# Altium footprint library linear.PCBLIB: 119 footprints (part 3 of 8)
Each footprint in its own frame and in the unit in brackets; x right, y up, seen from the top. Pads: shape width x height; smd on the part's side, far side on the other; paste and mask are expansions set on the pad; w line width, h text height; cw(c..) or ccw(c..) is an arc to the next point about the centre after c.
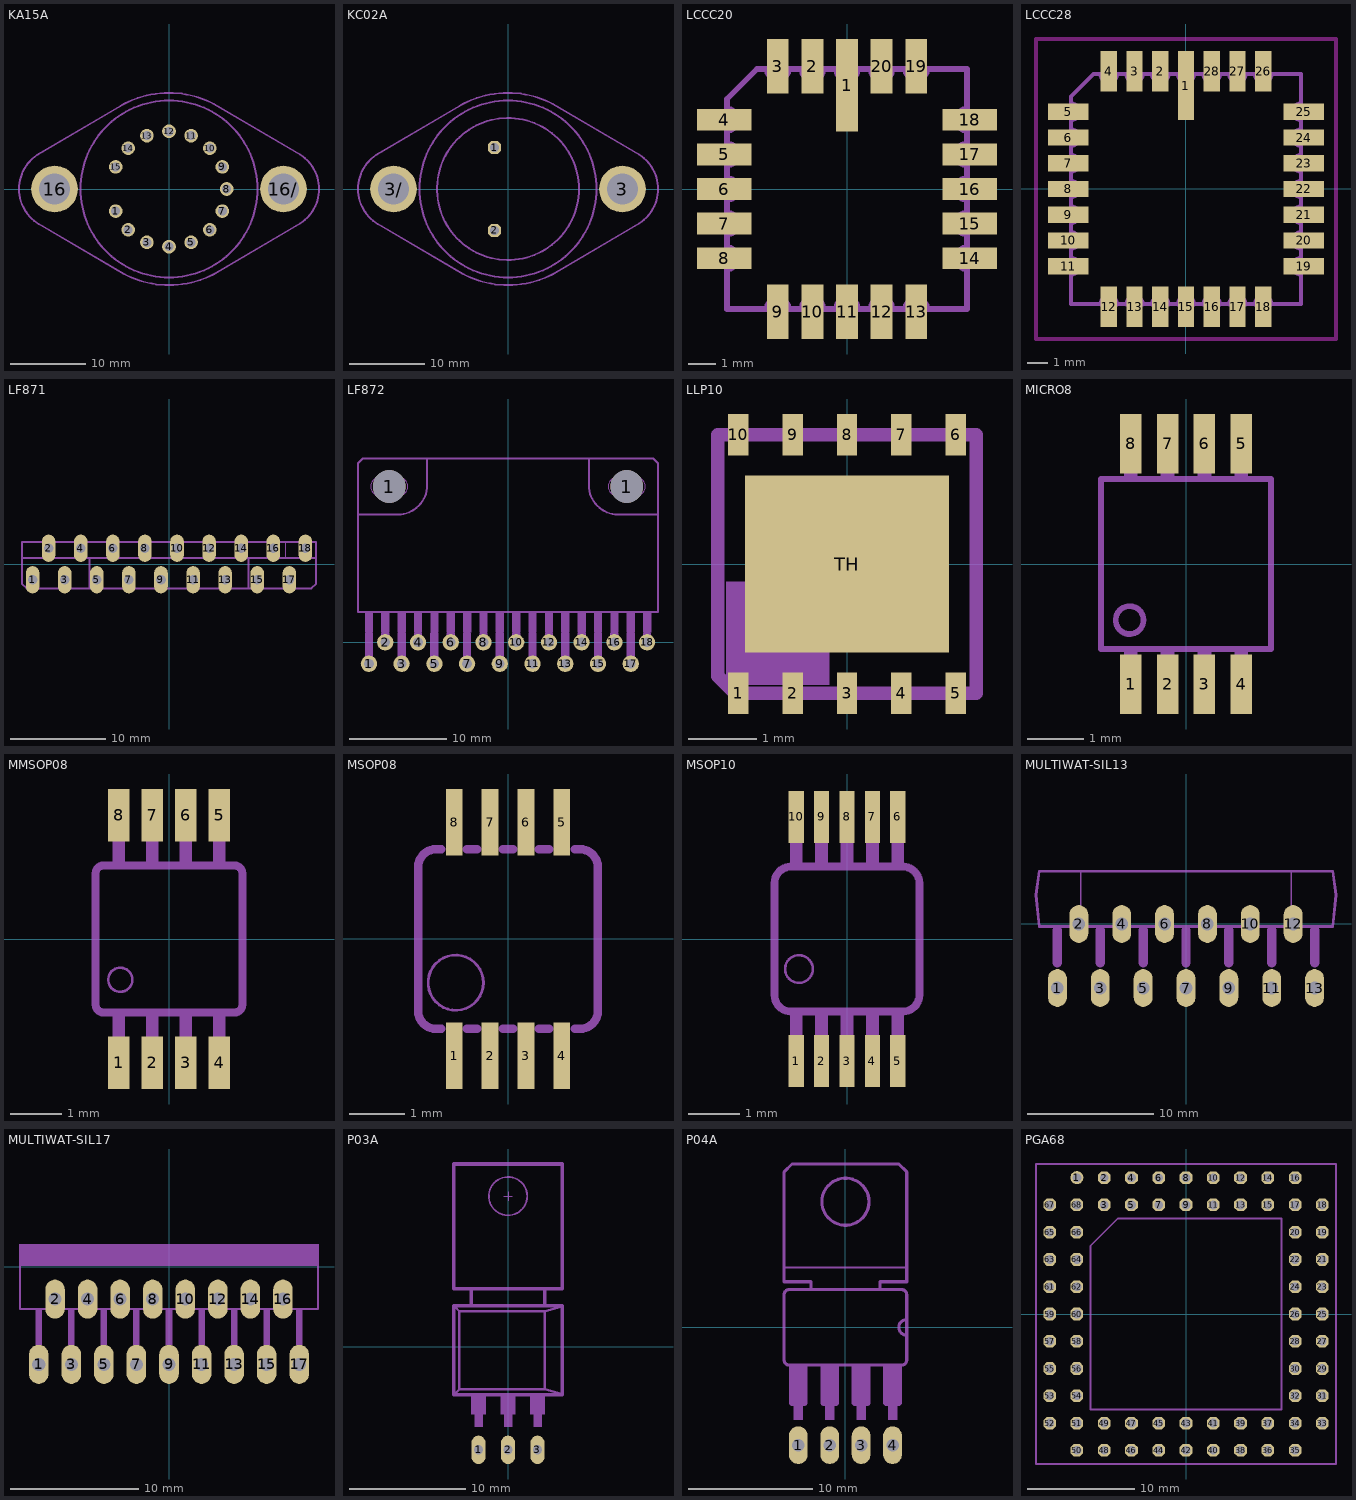
[diagram p2: the footprints below, top view; thin cyan lines are the x and y axes]

## KA15A [mil]
pads (17):
  round 70.86 hole 47.24: 1(-277.17,-114.8) 2(-212.13,-212.13) 3(-114.8,-277.17) 4(0,-300) 5(114.8,-277.17) 6(212.13,-212.13) 7(277.17,-114.8) 8(300,0) 9(277.17,114.8) 10(212.13,212.13) 11(114.8,277.17) 12(0,300) 13(-114.8,277.17) 14(-212.13,212.13) 15(-277.17,114.8)
  round 243 hole 162: 16(-595,0) 16/(595,0)
Mechanical 2:
  circle w10: c0,0 r460
  lines w10: -680,180 -250,433 ; -679,-181 -234,-442 ; -675.41,-183.35 cw(c-567,0) -780,0 cw(c-567,0) -672.94,184.78 ; -250.86,432.52 cw(c-0.01,0) 0,500 cw(c0.01,-0.01) 235.3,441.18 ; -235.3,-441.18 ccw(c-0.01,0.01) 0,-500 ccw(c0.01,0) 250.86,-432.52 ; 235,441 684,178 ; 251,-433 684,-178 ; 682.54,-178.94 ccw(c567,0) 780,0 ccw(c567,0) 682.54,178.94
Mechanical 18:
  circle w6: c595,0 r85
  circle w6: c-595,0 r85

## KC02A [mil]
pads (4):
  oct 68.26x68.26 hole 47: 1(-70,215) 2(-70,-215)
  round 243 hole 162: 3(595,0) 3/(-595,0)
Mechanical 2:
  circle w10: c0,0 r369
  circle w10: c0,0 r460
  lines w10: -680,180 -250,433 ; -679,-181 -234,-442 ; -675.41,-183.35 cw(c-567,0) -780,0 cw(c-567,0) -672.94,184.78 ; -250.86,432.52 cw(c-0.01,0) 0,500 cw(c0.01,-0.01) 235.3,441.18 ; -235.3,-441.18 ccw(c-0.01,0.01) 0,-500 ccw(c0.01,0) 250.86,-432.52 ; 235,441 684,178 ; 251,-433 684,-178 ; 682.54,-178.94 ccw(c567,0) 780,0 ccw(c567,0) 682.54,178.94
Mechanical 18:
  circle w10: c595,0 r85
  circle w10: c-595,0 r85

## LCCC20 [mil]
pads (20):
  rect 31.5x133.86 smd: 1(0,149.61)
  rect 31.5x78.74 smd: 2(-50,177.17) 3(-100,177.17) 9(-100,-177.17) 10(-50,-177.17) 11(0,-177.17) 12(50,-177.17) 13(100,-177.17) 19(100,177.17) 20(50,177.17)
  rect 78.74x31.5 smd: 4(-177.17,100) 5(-177.17,50) 6(-177.17,0) 7(-177.17,-50) 8(-177.17,-100) 14(177.17,-100) 15(177.17,-50) 16(177.17,0) 17(177.17,50) 18(177.17,100)
Mechanical 2:
  lines w8: -173.23,129.92 -129.92,173.23
Mechanical 18:
  lines w8: -173.23,-173.62 -173.23,-173.23 ; -173.23,-115.75 -173.23,-173.23 ; -173.23,-84.25 -173.23,-65.75 ; -173.23,-34.25 -173.23,-15.75 ; -173.23,15.75 -173.23,34.25 ; -173.23,65.75 -173.23,84.25 ; -173.23,115.75 -173.23,129.92 ; -173.17,-115.75 ccw(c-173.17,-100) -173.17,-84.25 ; -173.17,-65.75 ccw(c-173.17,-50) -173.17,-34.25 ; -173.17,-15.75 ccw(c-173.17,0) -173.17,15.75 ; -173.17,34.25 ccw(c-173.17,50) -173.17,65.75 ; -173.17,84.25 ccw(c-173.17,100) -173.17,115.75 ; -129.92,173.23 -115.75,173.23 ; -115.75,-173.23 -173.23,-173.23 ; -115.75,-173.17 cw(c-100,-173.17) -84.25,-173.17 ; -115.75,173.17 ccw(c-100,173.17) -84.25,173.17 ; -84.25,-173.23 -65.75,-173.23 ; -84.25,173.23 -65.75,173.23 ; -65.75,-173.17 cw(c-50,-173.17) -34.25,-173.17 ; -65.75,173.17 ccw(c-50,173.17) -34.25,173.17 ; -34.25,-173.23 -15.75,-173.23 ; -34.25,173.23 -15.75,173.23 ; -15.75,-173.17 cw(c0,-173.17) 15.75,-173.17 ; -15.75,173.17 ccw(c0,173.17) 15.75,173.17 ; 15.75,-173.23 34.25,-173.23 ; 15.75,173.23 34.25,173.23 ; 34.25,-173.17 cw(c50,-173.17) 65.75,-173.17 ; 34.25,173.17 ccw(c50,173.17) 65.75,173.17 ; 65.75,-173.23 84.25,-173.23 ; 65.75,173.23 84.25,173.23 ; 84.25,-173.17 cw(c100,-173.17) 115.75,-173.17 ; 84.25,173.17 ccw(c100,173.17) 115.75,173.17 ; 115.75,-173.23 173.23,-173.23 173.23,-115.75 ; 115.75,173.23 173.23,173.23 173.23,115.75 ; 173.17,-115.75 cw(c173.17,-100) 173.17,-84.25 ; 173.17,-65.75 cw(c173.17,-50) 173.17,-34.25 ; 173.17,-15.75 cw(c173.17,0) 173.17,15.75 ; 173.17,34.25 cw(c173.17,50) 173.17,65.75 ; 173.17,84.25 cw(c173.17,100) 173.17,115.75 ; 173.23,-84.25 173.23,-65.75 ; 173.23,-34.25 173.23,-15.75 ; 173.23,15.75 173.23,34.25 ; 173.23,65.75 173.23,84.25

## LCCC28 [mil]
pads (28):
  rect 31.5x133.86 smd: 1(0,200.79)
  rect 31.5x78.74 smd: 2(-50,228.35) 3(-100,228.35) 4(-150,228.35) 12(-150,-228.35) 13(-100,-228.35) 14(-50,-228.35) 15(0,-228.35) 16(50,-228.35) 17(100,-228.35) 18(150,-228.35) 26(150,228.35) 27(100,228.35) 28(50,228.35)
  rect 78.74x31.5 smd: 5(-228.35,150) 6(-228.35,100) 7(-228.35,50) 8(-228.35,0) 9(-228.35,-50) 10(-228.35,-100) 11(-228.35,-150) 19(228.35,-150) 20(228.35,-100) 21(228.35,-50) 22(228.35,0) 23(228.35,50) 24(228.35,100) 25(228.35,150)
Keep-Out Layer:
  lines w7.87: -291.46,-291.46 291.46,-291.46 291.46,291.46 -291.46,291.46 -291.46,-291.46
Mechanical 2:
  lines w8: -223.23,179.92 -179.92,223.23
Mechanical 18:
  lines w8: -223.23,179.92 -223.23,165.75 cw(c-223.23,150) -223.23,134.25 -223.23,115.75 cw(c-223.23,100) -223.23,84.25 -223.23,65.75 cw(c-223.23,50) -223.23,34.25 -223.23,15.75 cw(c-223.23,0) -223.23,-15.75 -223.23,-34.25 cw(c-223.23,-50) -223.23,-65.75 -223.23,-84.25 cw(c-223.23,-100) -223.23,-115.75 -223.23,-134.25 cw(c-223.23,-150) -223.23,-165.75 -223.23,-223.23 -165.75,-223.23 ; -179.92,223.23 -165.75,223.23 ccw(c-150,223.23) -134.25,223.23 -115.75,223.23 ccw(c-100,223.23) -84.25,223.23 -65.75,223.23 ccw(c-50,223.23) -34.25,223.23 -15.75,223.23 ccw(c0,223.23) 15.75,223.23 34.25,223.23 ccw(c50,223.23) 65.75,223.23 84.25,223.23 ccw(c100,223.23) 115.75,223.23 134.25,223.23 ccw(c150,223.23) 165.75,223.23 223.23,223.23 223.23,165.75 ccw(c223.23,150) 223.23,134.25 223.23,115.75 ccw(c223.23,100) 223.23,84.25 223.23,65.75 ccw(c223.23,50) 223.23,34.25 223.23,15.75 ccw(c223.23,0) 223.23,-15.75 223.23,-34.25 ccw(c223.23,-50) 223.23,-65.75 223.23,-84.25 ccw(c223.23,-100) 223.23,-115.75 223.23,-134.25 ccw(c223.23,-150) 223.23,-165.75 223.23,-223.23 165.75,-223.23 ; -165.75,-224.22 cw(c-150,-224.22) -134.25,-224.22 ; -134.25,-223.23 -115.75,-223.23 ; -115.75,-224.22 cw(c-100,-224.22) -84.25,-224.22 ; -84.25,-223.23 -65.75,-223.23 ; -65.75,-224.22 cw(c-50,-224.22) -34.25,-224.22 ; -34.25,-223.23 -15.75,-223.23 ; -15.75,-224.22 cw(c0,-224.22) 15.75,-224.22 ; 15.75,-223.23 34.25,-223.23 ; 34.25,-224.22 cw(c50,-224.22) 65.75,-224.22 ; 65.75,-223.23 84.25,-223.23 ; 84.25,-224.22 cw(c100,-224.22) 115.75,-224.22 ; 115.75,-223.23 134.25,-223.23 ; 134.25,-224.22 cw(c150,-224.22) 165.75,-224.22

## LF871 [mil]
pads (18):
  oval 56x112 hole 39.37: 1(-562.2,-64.96) 2(-496.06,64.96) 3(-429.92,-64.96) 4(-363.78,64.96) 5(-297.64,-64.96) 6(-231.5,64.96) 7(-165.35,-64.96) 8(-99.21,64.96) 9(-33.07,-64.96) 10(33.07,64.96) 11(99.21,-64.96) 12(165.35,64.96) 13(231.5,-64.96) 14(297.64,64.96) 15(363.78,-64.96) 16(429.92,64.96) 17(496.06,-64.96) 18(562.2,64.96)
Mechanical 2:
  lines w8: -606.3,-80.71 -606.3,90.55 -533.46,90.55 ; -517.72,-100.39 -480.32,-100.39 ; -448.82,90.55 -411.42,90.55 ; -381.89,-100.39 -344.49,-100.39 ; -318.9,90.55 -281.5,90.55 ; -250,-100.39 -212.6,-100.39 ; -185.04,90.55 -147.64,90.55 ; -116.14,-100.39 -78.74,-100.39 ; -53.15,90.55 -15.75,90.55 ; 15.75,-100.39 53.15,-100.39 ; 82.68,90.55 120.08,90.55 ; 145.67,-100.39 183.07,-100.39 ; 210.63,90.55 248.03,90.55 ; 277.56,-100.39 314.96,-100.39 ; 346.46,90.55 383.86,90.55 ; 411.42,-100.39 448.82,-100.39 ; 478.35,90.55 515.75,90.55 ; 539.37,-100.39 586.61,-100.39 606.3,-80.71 606.3,90.55 600.39,90.55
Mechanical 18:
  lines w4: -480.32,29.53 -480.32,86.61 ; 480.32,29.53 480.32,86.61
  lines w8: -604.33,25.59 -326.77,25.59 ; -326.77,-96.46 -326.77,25.59 ; 326.77,-98.43 326.77,25.59 ; 604.33,25.59 326.77,25.59 ; -326.77,25.59 326.77,25.59 ; -606.3,-80.71 -606.3,90.55 606.3,90.55 606.3,-80.71 586.61,-100.39 -586.61,-100.39 -606.3,-80.71

## LF872 [mil]
pads (20):
  round 66 hole 39.37: 1(-562.2,-86.61) 2(-496.06,0) 3(-429.92,-86.61) 4(-363.78,0) 5(-297.64,-86.61) 6(-231.5,0) 7(-165.35,-86.61) 8(-99.21,0) 9(-33.07,-86.61) 10(33.07,0) 11(99.21,-86.61) 12(165.35,0) 13(231.5,-86.61) 14(297.64,0) 15(363.78,-86.61) 16(429.92,0) 17(496.06,-86.61) 18(562.2,0)
  round 131.89 hole 131.89: 1(-480.32,629.92) 1(480.32,629.92)
Mechanical 1:
  lines w0: -555.12,629.92 cw(c-515.75,629.92) -515.75,669.29 -444.88,669.29 cw(c-444.88,629.92) -405.51,629.92 cw(c-444.88,629.92) -444.88,590.55 -515.75,590.55 cw(c-515.75,629.92) -555.12,629.92 ; 405.51,629.92 cw(c444.88,629.92) 444.88,669.29 515.75,669.29 cw(c515.75,629.92) 555.12,629.92 cw(c515.75,629.92) 515.75,590.55 444.88,590.55 cw(c444.88,629.92) 405.51,629.92
Mechanical 2:
  rectangle: -578.74,39.37 -545.28,120.08
  rectangle: -512.6,39.37 -479.13,120.08
  rectangle: -446.46,39.37 -412.99,120.08
  rectangle: -380.32,39.37 -346.85,120.08
  rectangle: -314.17,39.37 -280.71,120.08
  rectangle: -248.03,39.37 -214.57,120.08
  rectangle: -181.89,39.37 -148.43,120.08
  rectangle: -115.75,39.37 -82.28,120.08
  rectangle: -49.61,39.37 -16.14,120.08
  rectangle: 16.54,39.37 50,120.08
  rectangle: 82.68,39.37 116.14,120.08
  rectangle: 148.82,39.37 182.28,120.08
  rectangle: 214.96,39.37 248.43,120.08
  rectangle: 281.1,39.37 314.57,120.08
  rectangle: 347.24,39.37 380.71,120.08
  rectangle: 413.39,39.37 446.85,120.08
  rectangle: 479.53,39.37 512.99,120.08
  rectangle: 545.67,39.37 579.13,120.08
  lines w8: -604.33,516.73 -444.88,516.73 ccw(c-444.88,634.84) -326.77,634.84 -326.77,741.14 ; 326.77,739.17 326.77,634.84 ccw(c444.88,634.84) 444.88,516.73 604.33,516.73 ; -606.3,123.03 -606.3,723.43 -586.61,743.11 586.61,743.11 606.3,723.43 606.3,123.03 -606.3,123.03
Mechanical 18:
  lines w33.46: -562.2,-85.43 -562.2,33.07 ; -496.06,0 -496.06,33.07 ; -429.92,-85.43 -429.92,33.07 ; -363.78,0 -363.78,33.07 ; -297.64,-85.43 -297.64,33.07 ; -231.5,0 -231.5,33.07 ; -165.35,-85.43 -165.35,33.07 ; -99.21,0 -99.21,33.07 ; -33.07,-85.43 -33.07,33.07 ; 33.07,0 33.07,33.07 ; 99.21,-85.43 99.21,33.07 ; 165.35,0 165.35,33.07 ; 231.5,-85.43 231.5,33.07 ; 297.64,0 297.64,33.07 ; 363.78,-85.43 363.78,33.07 ; 429.92,0 429.92,33.07 ; 496.06,-85.43 496.06,33.07 ; 562.2,0 562.2,33.07

## LLP10 [mil]
pads (11):
  rect 11.81x24.02 smd: 1(-62.99,-74.8) 2(-31.5,-74.8) 3(0,-74.8) 4(31.5,-74.8) 5(62.99,-74.8) 6(62.99,74.8) 7(31.5,74.8) 8(0,74.8) 9(-31.5,74.8) 10(-62.99,74.8)
  rect 118.11x102.36 smd: TH(0,0)
Mechanical 2:
  lines w8: -74.8,-64.8 -64.8,-74.8 74.8,-74.8 74.8,74.8 -74.8,74.8 -74.8,-64.8
Mechanical 18:
  rectangle: -70,-70 -10,-10

## MICRO8 [mm]
pads (8):
  rect 0.38x1.05 smd: 1(-0.975,-2.125) 2(-0.325,-2.125) 3(0.325,-2.125) 4(0.975,-2.125) 5(0.975,2.125) 6(0.325,2.125) 7(-0.325,2.125) 8(-0.975,2.125)
Mechanical 2:
  circle w0.102: c-0.996,-0.991 r0.246
  lines w0.102: -1.5,-1.5 1.5,-1.5 1.5,1.5 -1.5,1.5 -1.5,-1.5
Mechanical 18:
  rectangle: -1.098,1.55 -0.854,2.525
  rectangle: -0.448,1.55 -0.204,2.525
  rectangle: 0.202,1.55 0.446,2.525
  rectangle: 0.852,1.55 1.096,2.525
  rectangle: -1.098,-2.525 -0.854,-1.55
  rectangle: -0.448,-2.525 -0.204,-1.55
  rectangle: 0.202,-2.525 0.446,-1.55
  rectangle: 0.852,-2.525 1.096,-1.55

## MMSOP08 [mil]
pads (8):
  rect 16.14x40.16 smd: 1(-38.39,-94.49) 2(-12.8,-94.49) 3(12.8,-94.49) 4(38.39,-94.49) 5(38.39,94.49) 6(12.8,94.49) 7(-12.8,94.49) 8(-38.39,94.49)
Mechanical 2:
  circle w2: c-37.23,-31.13 r9.21
  rectangle: -43.21,-72.83 -33.61,-56.13
  rectangle: -17.62,-72.83 -8.02,-56.13
  rectangle: 7.97,-72.83 17.57,-56.13
  rectangle: 33.56,-72.83 43.16,-56.13
  region: 43.21,72.83 33.61,72.83 33.61,56.13 43.21,56.13
  region: 17.62,72.83 8.02,72.83 8.02,56.13 17.62,56.13
  region: -7.97,72.83 -17.57,72.83 -17.57,56.13 -7.97,56.13
  region: -33.56,72.83 -43.16,72.83 -43.16,56.13 -33.56,56.13
  lines w6: -56.06,-50.16 ccw(c-50.16,-50.2) -50.2,-56.1 50.2,-56.1 ccw(c50.2,-50.24) 56.06,-50.24 56.06,50.16 ccw(c50.16,50.2) 50.2,56.1 -50.2,56.1 ccw(c-50.2,50.24) -56.06,50.24 -56.06,-50.16
Mechanical 18:
  rectangle: -43.21,-96.46 -33.61,-72.83
  rectangle: -17.62,-96.46 -8.02,-72.83
  rectangle: 7.97,-96.46 17.57,-72.83
  rectangle: 33.56,-96.46 43.16,-72.83
  region: 43.21,96.46 33.61,96.46 33.61,72.83 43.21,72.83
  region: 17.62,96.46 8.02,96.46 8.02,72.83 17.62,72.83
  region: -7.97,96.46 -17.57,96.46 -17.57,72.83 -7.97,72.83
  region: -33.56,96.46 -43.16,96.46 -43.16,72.83 -33.56,72.83

## MSOP08 [mil]
pads (8):
  rect 11.81x47.24 smd: 1(-38.43,-83.19) 2(-12.83,-83.19) 3(12.76,-83.19) 4(38.35,-83.19) 5(38.35,83.15) 6(12.76,83.15) 7(-12.83,83.15) 8(-38.43,83.15)
Mechanical 2:
  circle w2: c-37.23,-31.13 r19.69
  lines w6: -51.22,-64.02 cw(c-51.22,-51.22) -64.02,-51.22 -64.02,51.14 cw(c-51.22,51.14) -51.22,63.94 ; 51.14,-64.02 ccw(c51.14,-51.22) 63.94,-51.22 63.94,51.14 ccw(c51.14,51.14) 51.14,63.94
Mechanical 18:
  rectangle: -43.21,63.95 -33.61,92.74
  rectangle: -17.62,63.95 -8.02,92.74
  rectangle: 7.97,63.95 17.57,92.74
  rectangle: 33.56,63.95 43.16,92.74
  rectangle: -43.21,-92.79 -33.61,-64
  rectangle: -17.62,-92.79 -8.02,-64
  rectangle: 7.97,-92.79 17.57,-64
  rectangle: 33.56,-92.79 43.16,-64
  lines w6: -52.8,-64.02 -47.4,-64.02 ; -51.22,63.94 -47.4,63.94 ; -29.41,-64.02 -21.81,-64.02 ; -29.41,63.94 -21.81,63.94 ; -3.82,-64.02 3.78,-64.02 ; -3.82,63.94 3.78,63.94 ; 21.77,-64.02 29.37,-64.02 ; 21.77,63.94 29.37,63.94 ; 47.36,-64.02 51.14,-64.02 ; 47.36,63.94 51.14,63.94

## MSOP10 [mm]
pads (10):
  rect 0.3x1.02 smd paste-0.51 mask-0.51: 1(-1,-2.4) 2(-0.5,-2.4) 3(0,-2.4) 4(0.5,-2.4) 5(1,-2.4) 6(1,2.4) 7(0.5,2.4) 8(0,2.4) 9(-0.5,2.4) 10(-1,2.4)
Top Paste:
  rectangle: -1.15,-2.85 -0.85,-1.9
  rectangle: -0.65,-2.85 -0.35,-1.9
  rectangle: -0.15,-2.85 0.15,-1.9
  rectangle: 0.35,-2.85 0.65,-1.9
  rectangle: 0.85,-2.85 1.15,-1.9
  region: 1.15,2.85 0.85,2.85 0.85,1.9 1.15,1.9
  region: 0.65,2.85 0.35,2.85 0.35,1.9 0.65,1.9
  region: 0.15,2.85 -0.15,2.85 -0.15,1.9 0.15,1.9
  region: -0.35,2.85 -0.65,2.85 -0.65,1.9 -0.35,1.9
  region: -0.85,2.85 -1.15,2.85 -1.15,1.9 -0.85,1.9
Top Solder:
  rectangle: -1.2,-2.95 -0.8,-1.85
  rectangle: -0.7,-2.95 -0.3,-1.85
  rectangle: -0.2,-2.95 0.2,-1.85
  rectangle: 0.3,-2.95 0.7,-1.85
  rectangle: 0.8,-2.95 1.2,-1.85
  region: 1.2,2.95 0.8,2.95 0.8,1.85 1.2,1.85
  region: 0.7,2.95 0.3,2.95 0.3,1.85 0.7,1.85
  region: 0.2,2.95 -0.2,2.95 -0.2,1.85 0.2,1.85
  region: -0.3,2.95 -0.7,2.95 -0.7,1.85 -0.3,1.85
  region: -0.8,2.95 -1.2,2.95 -1.2,1.85 -0.8,1.85
Mechanical 2:
  circle w0.051: c-0.946,-0.591 r0.273
  rectangle: -1.125,-1.825 -0.875,-1.475
  rectangle: -0.625,-1.825 -0.375,-1.475
  rectangle: -0.125,-1.825 0.125,-1.475
  rectangle: 0.375,-1.825 0.625,-1.475
  rectangle: 0.875,-1.825 1.125,-1.475
  region: 1.125,1.825 0.875,1.825 0.875,1.475 1.125,1.475
  region: 0.625,1.825 0.375,1.825 0.375,1.475 0.625,1.475
  region: 0.125,1.825 -0.125,1.825 -0.125,1.475 0.125,1.475
  region: -0.375,1.825 -0.625,1.825 -0.625,1.475 -0.375,1.475
  region: -0.875,1.825 -1.125,1.825 -1.125,1.475 -0.875,1.475
  lines w0.152: -1.101,-1.426 cw(c-1.101,-1.101) -1.426,-1.101 -1.426,1.099 cw(c-1.101,1.099) -1.101,1.424 1.099,1.424 cw(c1.099,1.099) 1.424,1.099 1.424,-1.101 cw(c1.099,-1.101) 1.099,-1.426 -1.1,-1.425
Mechanical 18:
  rectangle: -1.125,-2.45 -0.875,-1.825
  rectangle: -0.625,-2.45 -0.375,-1.825
  rectangle: -0.125,-2.45 0.125,-1.825
  rectangle: 0.375,-2.45 0.625,-1.825
  rectangle: 0.875,-2.45 1.125,-1.825
  region: 1.125,2.45 0.875,2.45 0.875,1.825 1.125,1.825
  region: 0.625,2.45 0.375,2.45 0.375,1.825 0.625,1.825
  region: 0.125,2.45 -0.125,2.45 -0.125,1.825 0.125,1.825
  region: -0.375,2.45 -0.625,2.45 -0.625,1.825 -0.375,1.825
  region: -0.875,2.45 -1.125,2.45 -1.125,1.825 -0.875,1.825

## MULTIWAT-SIL13 [mm]
pads (13):
  oval 1.5x3 hole 1: 1(-10.2,-5.08) 2(-8.5,0) 3(-6.8,-5.08) 4(-5.1,0) 5(-3.4,-5.08) 6(-1.7,0) 7(0,-5.08) 8(1.7,0) 9(3.4,-5.08) 10(5.1,0) 11(6.8,-5.08) 12(8.5,0) 13(10.2,-5.08)
Mechanical 2:
  lines w0.203: -9.52,-0.2 -11.65,-0.2 -11.9,2.3 -11.65,4.2 11.65,4.2 11.9,2.3 11.65,-0.2 9.52,-0.2 ; -7.48,-0.2 -6.12,-0.2 ; -4.08,-0.2 -2.72,-0.2 ; -0.68,-0.2 0.68,-0.2 ; 2.72,-0.2 4.08,-0.2 ; 6.12,-0.2 7.48,-0.2
  lines w0.75: -10.2,-3.06 -10.2,-0.51 ; -6.8,-3.06 -6.8,-0.51 ; -3.4,-3.06 -3.4,-0.51 ; 0,-3.06 0,-0.51 ; 3.4,-3.06 3.4,-0.51 ; 6.8,-3.06 6.8,-0.51 ; 10.2,-3.06 10.2,-0.51
Mechanical 15:
  lines w0.102: -8.35,-0.1 -8.35,4.1 ; 8.35,-0.1 8.35,4.1
Mechanical 18:
  lines w0.203: -9.52,-0.2 -7.48,-0.2 ; -6.12,-0.2 -4.08,-0.2 ; -2.72,-0.2 -0.68,-0.2 ; 0.68,-0.2 2.72,-0.2 ; 4.08,-0.2 6.12,-0.2 ; 7.48,-0.2 9.52,-0.2

## MULTIWAT-SIL17 [mil]
pads (17):
  oval 60x120 hole 40: 1(-400,-300) 2(-350,-100) 3(-300,-300) 4(-250,-100) 5(-200,-300) 6(-150,-100) 7(-100,-300) 8(-50,-100) 9(0,-300) 10(50,-100) 11(100,-300) 12(150,-100) 13(200,-300) 14(250,-100) 15(300,-300) 16(350,-100) 17(400,-300)
Mechanical 2:
  rectangle: -460.63,1.97 460.63,68.9
  lines w6: -457.4,10 -457.4,-130 -410,-130 ; 310,-130 457.4,-130 457.4,10
Mechanical 18:
  rectangle: -410,-240 -390,-130
  rectangle: -310,-240 -290,-130
  rectangle: -210,-240 -190,-130
  rectangle: -110,-240 -90,-130
  rectangle: -10,-240 10,-130
  rectangle: 90,-240 110,-130
  rectangle: 190,-240 210,-130
  rectangle: 290,-240 310,-130
  rectangle: 390,-240 410,-130
  lines w6: -410,-130 -310,-130 ; 310,-130 -310,-130 ; 410,-130 -310,-130

## P03A [mil]
pads (3):
  oval 48x96 hole 32: 1(-100,-350) 2(0,-350) 3(100,-350)
Mechanical 2:
  circle w6: c0,510 r65
  rectangle: -125,-230 -75,-166
  rectangle: -114,-272 -85,-213
  rectangle: -25,-230 25,-166
  rectangle: -14,-272 15,-213
  rectangle: 75,-230 125,-166
  rectangle: 86,-272 115,-213
  lines w8: -180,-160 -165,-145 ; -180,135 -165,120 ; 180,-160 125,-145 ; 180,135 125,120 ; -165,-145 125,-145 ; -165,-145 -165,120 ; -165,120 125,120 ; 125,-145 125,120
  lines w12: -124,141 -124,192 ; 124,141 124,191 ; -184,-164 184,-164 184,139 -184,139 -184,-164 ; -184,196 -184,619 184,619 184,196 -184,196
Mechanical 18:
  lines w2: -15,510 15,510 ; 0,495 0,525

## P04A [mil]
pads (4):
  oval 60x120 hole 40: 1(-150,-375) 2(-50,-375) 3(50,-375) 4(150,-375)
Mechanical 2:
  circle w10: c0,400 r75
  rectangle: -180,-240 -120,-123
  rectangle: -80,-240 -20,-123
  rectangle: 20,-240 80,-123
  rectangle: -165,-295 -135,-245
  rectangle: -65,-295 -35,-245
  rectangle: 35,-295 65,-245
  rectangle: 120,-240 180,-123
  rectangle: 135,-295 165,-245
  lines w6: -190,190 190,190
  lines w10: -110,125 -110,145 -195,145 -195,495 -170,520 170,520 195,495 195,145 110,145 110,125 ; 195,-25 195,-105 cw(c180,-105) 180,-120 -180,-120 cw(c-180,-105) -195,-105 -195,105 cw(c-180,105) -180,120 180,120 cw(c180,105) 195,105 195,25 ; 195,-25 195,25 ; 195,-25 cw(c195,0) 195,25
  lines w20: -170,-240 -130,-240 ; -70,-240 -30,-240 ; 30,-240 70,-240 ; 130,-240 170,-240

## PGA68 [mil]
pads (68):
  round 48 hole 32: 1(-400,500)
  oct 46.48x46.48 hole 32: 2(-300,500) 3(-300,400) 4(-200,500) 5(-200,400) 6(-100,500) 7(-100,400) 8(0,500) 9(0,400) 10(100,500) 11(100,400) 12(200,500) 13(200,400) 14(300,500) 15(300,400) 16(400,500) 17(400,400) 18(500,400) 19(500,300) 20(400,300) 21(500,200) 22(400,200) 23(500,100) 24(400,100) 25(500,0) 26(400,0) 27(500,-100) 28(400,-100) 29(500,-200) 30(400,-200) 31(500,-300) 32(400,-300) 33(500,-400) 34(400,-400) 35(400,-500) 36(300,-500) 37(300,-400) 38(200,-500) 39(200,-400) 40(100,-500) 41(100,-400) 42(0,-500) 43(0,-400) 44(-100,-500) 45(-100,-400) 46(-200,-500) 47(-200,-400) 48(-300,-500) 49(-300,-400) 50(-400,-500) 51(-400,-400) 52(-500,-400) 53(-500,-300) 54(-400,-300) 55(-500,-200) 56(-400,-200) 57(-500,-100) 58(-400,-100) 59(-500,0) 60(-400,0) 61(-500,100) 62(-400,100) 63(-500,200) 64(-400,200) 65(-500,300) 66(-400,300) 67(-500,400) 68(-400,400)
Mechanical 2:
  lines w6: -550,-550 550,-550 550,550 -550,550 -550,-550 ; -350,-350 350,-350 350,350 -250,350 -350,250 -350,-350